# Altium schematic symbol library BQ25303JRTER.Schlib: 1 symbol
Pins are listed as number, name and electrical type; pins without a type are passive.

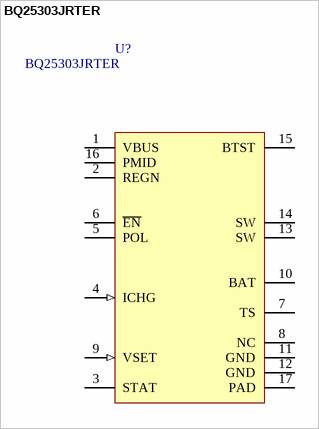
[diagram p0: symbol BQ25303JRTER]

## BQ25303JRTER
designator U?
Charger IC Lithium Ion/Polymer 16-WQFN (3x3)
pins: 1 VBUS (power), 2 REGN, 3 STAT (oc), 4 ICHG (in), 5 POL, 6 ~{EN}, 7 TS, 8 NC, 9 VSET (in), 10 BAT, 11 GND (power), 12 GND (power), 13 SW, 14 SW, 15 BTST, 16 PMID (power), 17 PAD (power)